# EAGLE library part TLW-116-06-T-S (library SAMTEC-Txx_By_element14_Batch_1)
CONNECTOR HEADER, 16 WAY, 1ROW
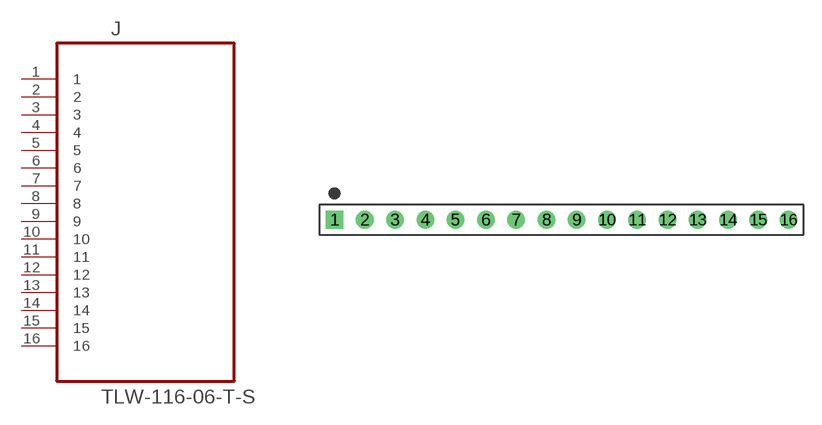
[diagram p227: symbol with the pads of SAMTEC_TLW-116-06-T-S; footprint SAMTEC_TLW-116-06-T-S]

Designator prefix J

## TLW-116-06-T-S (MPN: TLW-116-06-T-S; OC_FARNELL: -; OC_NEWARK: 12P0489; PACKAGE: CONN HEADER 16 POS .100 inch; SUPPLIER: SAMTEC)  [SAMTEC_TLW-116-06-T-S]
1  1  pas
2  2  pas
3  3  pas
4  4  pas
5  5  pas
6  6  pas
7  7  pas
8  8  pas
9  9  pas
10  10  pas
11  11  pas
12  12  pas
13  13  pas
14  14  pas
15  15  pas
16  16  pas

## Footprint SAMTEC_TLW-116-06-T-S (pad centres in mm)
drill 0.965 square: 1 -38.1,0
drill 0.965: 2 -35.56,0; 3 -33.02,0; 4 -30.48,0; 5 -27.94,0; 6 -25.4,0; 7 -22.86,0; 8 -20.32,0; 9 -17.78,0; 10 -15.24,0; 11 -12.7,0; 12 -10.16,0; 13 -7.62,0; 14 -5.08,0; 15 -2.54,0; 16 0,0